# Altium schematic symbol library sonar.SchLib: 7 symbols
Pins are listed as number, name and electrical type; pins without a type are passive.

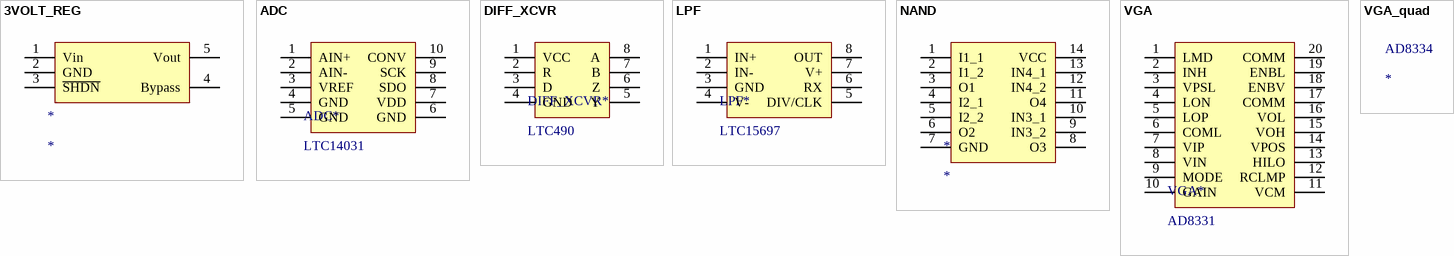
[diagram p0: symbols 3VOLT_REG to VGA_quad]

## 3VOLT_REG
designator *
footprint 3VOLT_REG (SOT23, 5-Leads, Body 3.1x3.2mm (max), Pitch 0.95mm, IPC Medium Density)
pins: 1 Vin (power), 2 GND (power), 3 ~{SHDN} (power), 4 Bypass (power), 5 Vout (power)

## ADC
designator ADC*, comment LTC14031
footprint ADC (TSSOP, 10-Leads, Body 3.1x3.1mm (max), Pitch 0.50mm, IPC Medium Density)
pins: 1 AIN+ (power), 2 AIN- (power), 3 VREF (power), 4 GND (power), 5 GND (power), 6 GND (power), 7 VDD (power), 8 SDO (power), 9 SCK (power), 10 CONV (power)

## DIFF_XCVR
designator DIFF_XCVR*, comment LTC490
pins: 1 VCC (power), 2 R (power), 3 D (power), 4 GND (power), 5 Y (power), 6 Z (power), 7 B (power), 8 A (power)

## LPF
designator LPF*, comment LTC15697
pins: 1 IN+ (power), 2 IN- (power), 3 GND (power), 4 V- (power), 5 DIV/CLK (power), 6 RX (power), 7 V+ (power), 8 OUT (power)

## NAND
designator *
pins: 1 I1_1 (power), 2 I1_2 (power), 3 O1 (power), 4 I2_1 (power), 5 I2_2 (power), 6 O2 (power), 7 GND (power), 8 O3 (power), 9 IN3_2 (power), 10 IN3_1 (power), 11 O4 (power), 12 IN4_2 (power), 13 IN4_1 (power), 14 VCC (power)

## VGA
designator VGA*, comment AD8331
footprint VGA (SOP, 20-Leads, Body 8.8x4.0mm (max), Pitch 0.64mm, IPC Medium Density)
pins: 1 LMD (power), 2 INH (power), 3 VPSL (power), 4 LON (power), 5 LOP (power), 6 COML (power), 7 VIP (power), 8 VIN (power), 9 MODE (power), 10 GAIN (power), 11 VCM (power), 12 RCLMP (power), 13 HILO (power), 14 VPOS (power), 15 VOH (power), 16 VOL (power), 17 COMM (power), 18 ENBV (power), 19 ENBL (power), 20 COMM (power)

## VGA_quad
designator AD8334